# EAGLE library part SN74CB3Q3257 (library PTS_Board_Lib)
2:1x4 MUX w/ Tri-State
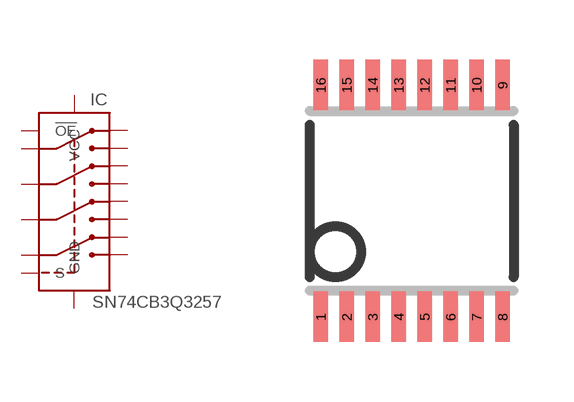
[diagram p1: symbol with the pads of TSSOP16; footprint TSSOP16]

Designator prefix IC

## SN74CB3Q3257PW  [TSSOP16]
1  S  in
2  1B1
3  1B2
4  1A
5  2B1
6  2B2
7  2A
8  GND  pwr
9  3A
10  3B2
11  3B1
12  4A
13  4B2
14  4B1
15  !OE  in
16  VCC  pwr

## Footprint TSSOP16 (pad centres in mm)
smd 0.36 x 1.26: 1 -2.275,-2.9; 2 -1.625,-2.9; 3 -0.975,-2.9; 4 -0.325,-2.9; 5 0.325,-2.9; 6 0.975,-2.9; 7 1.625,-2.9; 8 2.275,-2.9; 9 2.275,2.9; 10 1.625,2.9; 11 0.975,2.9; 12 0.325,2.9; 13 -0.325,2.9; 14 -0.975,2.9; 15 -1.625,2.9; 16 -2.275,2.9